# EAGLE library part NJM2732M (library lbr_rin9147)
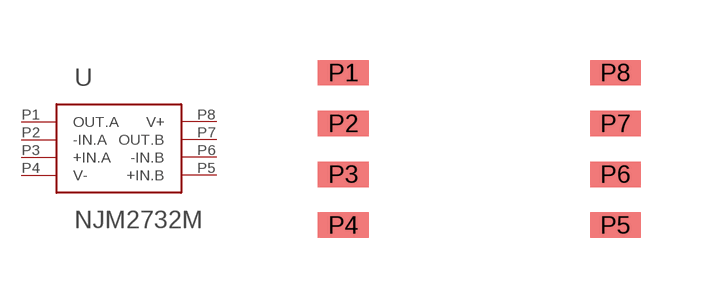
[diagram p9: symbol with the pads of NJM2732M; footprint NJM2732M]

Designator prefix -

## NJM2732M  [NJM2732M]
P1  OUT.A
P2  -IN.A
P3  +IN.A
P4  V-  pas
P5  +IN.B
P6  -IN.B
P7  OUT.B
P8  V+  pas

## Footprint NJM2732M (pad centres in mm)
smd 1.27 x 0.635: P1 0,0; P2 0,-1.27; P3 0,-2.54; P4 0,-3.81; P5 6.8,-3.81; P6 6.8,-2.54; P7 6.8,-1.27; P8 6.8,0